# Altium footprint library PICkit interface.PcbLib: 5 footprints
Each footprint in its own frame and in the unit in brackets; x right, y up, seen from the top. Pads: shape width x height; smd on the part's side, far side on the other; paste and mask are expansions set on the pad; w line width, h text height; cw(c..) or ccw(c..) is an arc to the next point about the centre after c.
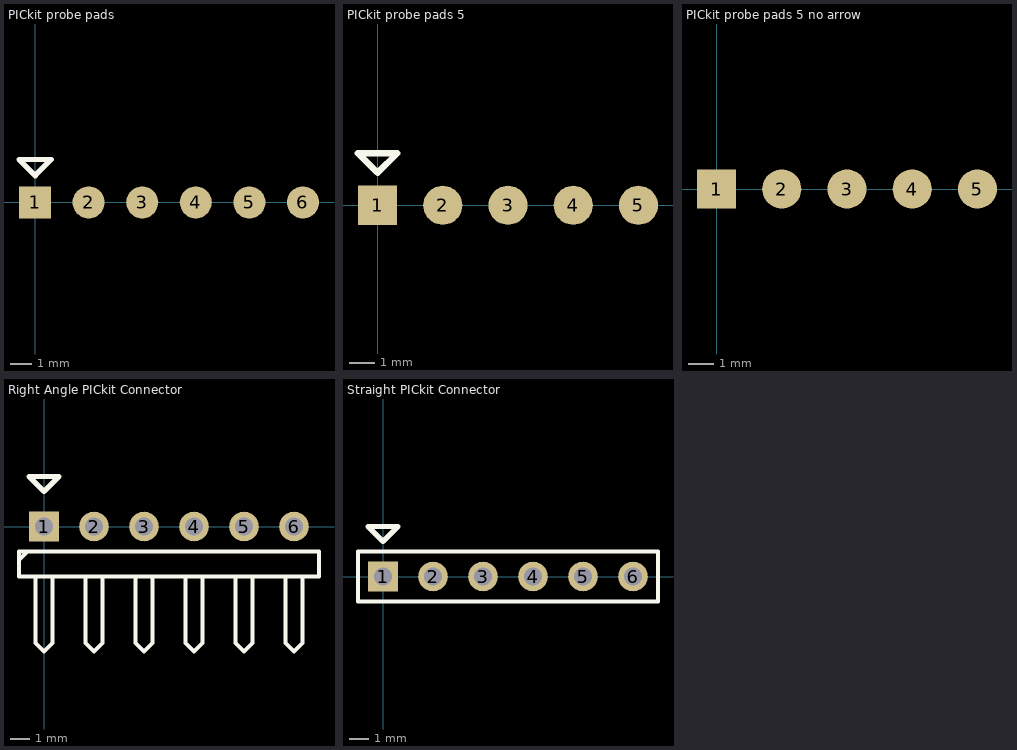
[diagram p0: the footprints below, top view; thin cyan lines are the x and y axes]

## PICkit probe pads [mil] "Pads for PICkit3 ICSP"
pads (6):
  rect 60x60 smd paste-30: 1(0,0)
  round 60 smd paste-30: 2(100,0) 3(200,0) 4(300,0) 5(400,0) 6(500,0)
Top Overlay:
  lines w10: -30,80 30,80 0,50 -30,80

## PICkit probe pads 5 [mil] "Pads for PICkit3 ICSP, no LVP"
pads (5):
  rect 60x60 smd paste-30: 1(0,0)
  round 60 smd paste-30: 2(100,0) 3(200,0) 4(300,0) 5(400,0)
Top Overlay:
  lines w10: -30,80 30,80 0,50 -30,80

## PICkit probe pads 5 no arrow [mil] "Pads for PICkit3 ICSP, no LVP"
pads (5):
  rect 60x60 smd paste-30: 1(0,0)
  round 60 smd paste-30: 2(100,0) 3(200,0) 4(300,0) 5(400,0)

## Right Angle PICkit Connector [mm] "Right Angle PICkit Connector"
height 4.02
pads (6):
  rect 1.5x1.5 hole 0.9: 1(0,0)
  round 1.5 hole 0.9: 2(2.54,0) 3(5.08,0) 4(7.62,0) 5(10.16,0) 6(12.7,0)
Top Overlay:
  lines w0.2: -1.27,-1.693 -0.847,-1.27 ; -0.423,-2.54 -0.423,-5.927 0,-6.35 0.423,-5.927 0.423,-2.54 ; 2.117,-2.54 2.117,-5.927 2.54,-6.35 2.963,-5.927 2.963,-2.54 ; 4.657,-2.54 4.657,-5.927 5.08,-6.35 5.503,-5.927 5.503,-2.54 ; 7.197,-2.54 7.197,-5.927 7.62,-6.35 8.043,-5.927 8.043,-2.54 ; 9.737,-2.54 9.737,-5.927 10.16,-6.35 10.583,-5.927 10.583,-2.54 ; 12.277,-2.54 12.277,-5.927 12.7,-6.35 13.123,-5.927 13.123,-2.54 ; -1.27,-2.54 -1.27,-1.27 13.97,-1.27 13.97,-2.54 -1.27,-2.54
  lines w0.254: -0.762,2.54 0,1.778 0.762,2.54 -0.762,2.54
3D body: height 4.8, standoff -5.99, extent -1.27,-6.667 13.97,1.27

## Straight PICkit Connector [mm] "Straight PICkit Connector"
height 8.54
pads (6):
  rect 1.5x1.5 hole 0.9: 1(0,0)
  round 1.5 hole 0.9: 2(2.54,0) 3(5.08,0) 4(7.62,0) 5(10.16,0) 6(12.7,0)
Top Overlay:
  lines w0.2: -1.27,-1.27 13.97,-1.27 13.97,1.27 -1.27,1.27 -1.27,-1.27
  lines w0.254: -0.762,2.54 0.762,2.54 0,1.778 -0.762,2.54
3D body: height 8.61, standoff -2.51, extent -1.27,-1.27 13.97,1.27